# Altium schematic symbol library BNO080.SchLib: 1 symbol
Pins are listed as number, name and electrical type; pins without a type are passive.

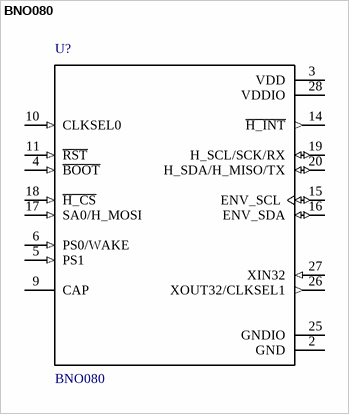
[diagram p0: symbol BNO080]

## BNO080
designator U?
Imu Accel/Gyro/Mag I2c 32bit; MF: Hillcrest Laboratories,; Digi-Key_Part_Number: 1888-1000-1-ND; Package: TFLGA-28 Hillcrest Laboratories,; Digi-Key_Purchase_URL: https://www.digikey.ca/product-detail/en/hillcrest-laboratories-inc/BNO080/1888-1000-1-ND/7917169?utm_source=snapeda&utm_medium=aggregator&utm_campaign=symbol; SnapEDA_Link: https://www.snapeda.com/parts/BNO080/Hillcrest%20Laboratories%2C%20Inc./view-part/?ref=snap; MP: BNO080; Value: *
footprint *IC_BNO080
pins: 2 GND (power), 3 VDD (power), 4 ~{BOOT} (in), 5 PS1 (in), 6 PS0/WAKE (in), 9 CAP, 10 CLKSEL0 (in), 11 ~{RST} (in), 14 ~{H_INT} (out), 15 ENV_SCL (io), 16 ENV_SDA (io), 17 SA0/H_MOSI (in), 18 ~{H_CS} (in), 19 H_SCL/SCK/RX (io), 20 H_SDA/H_MISO/TX (io), 25 GNDIO (power), 26 XOUT32/CLKSEL1 (out), 27 XIN32 (in), 28 VDDIO (power)